# Altium integrated library Maxim Sensors.IntLib: 1171 symbols (part 32 of 61)
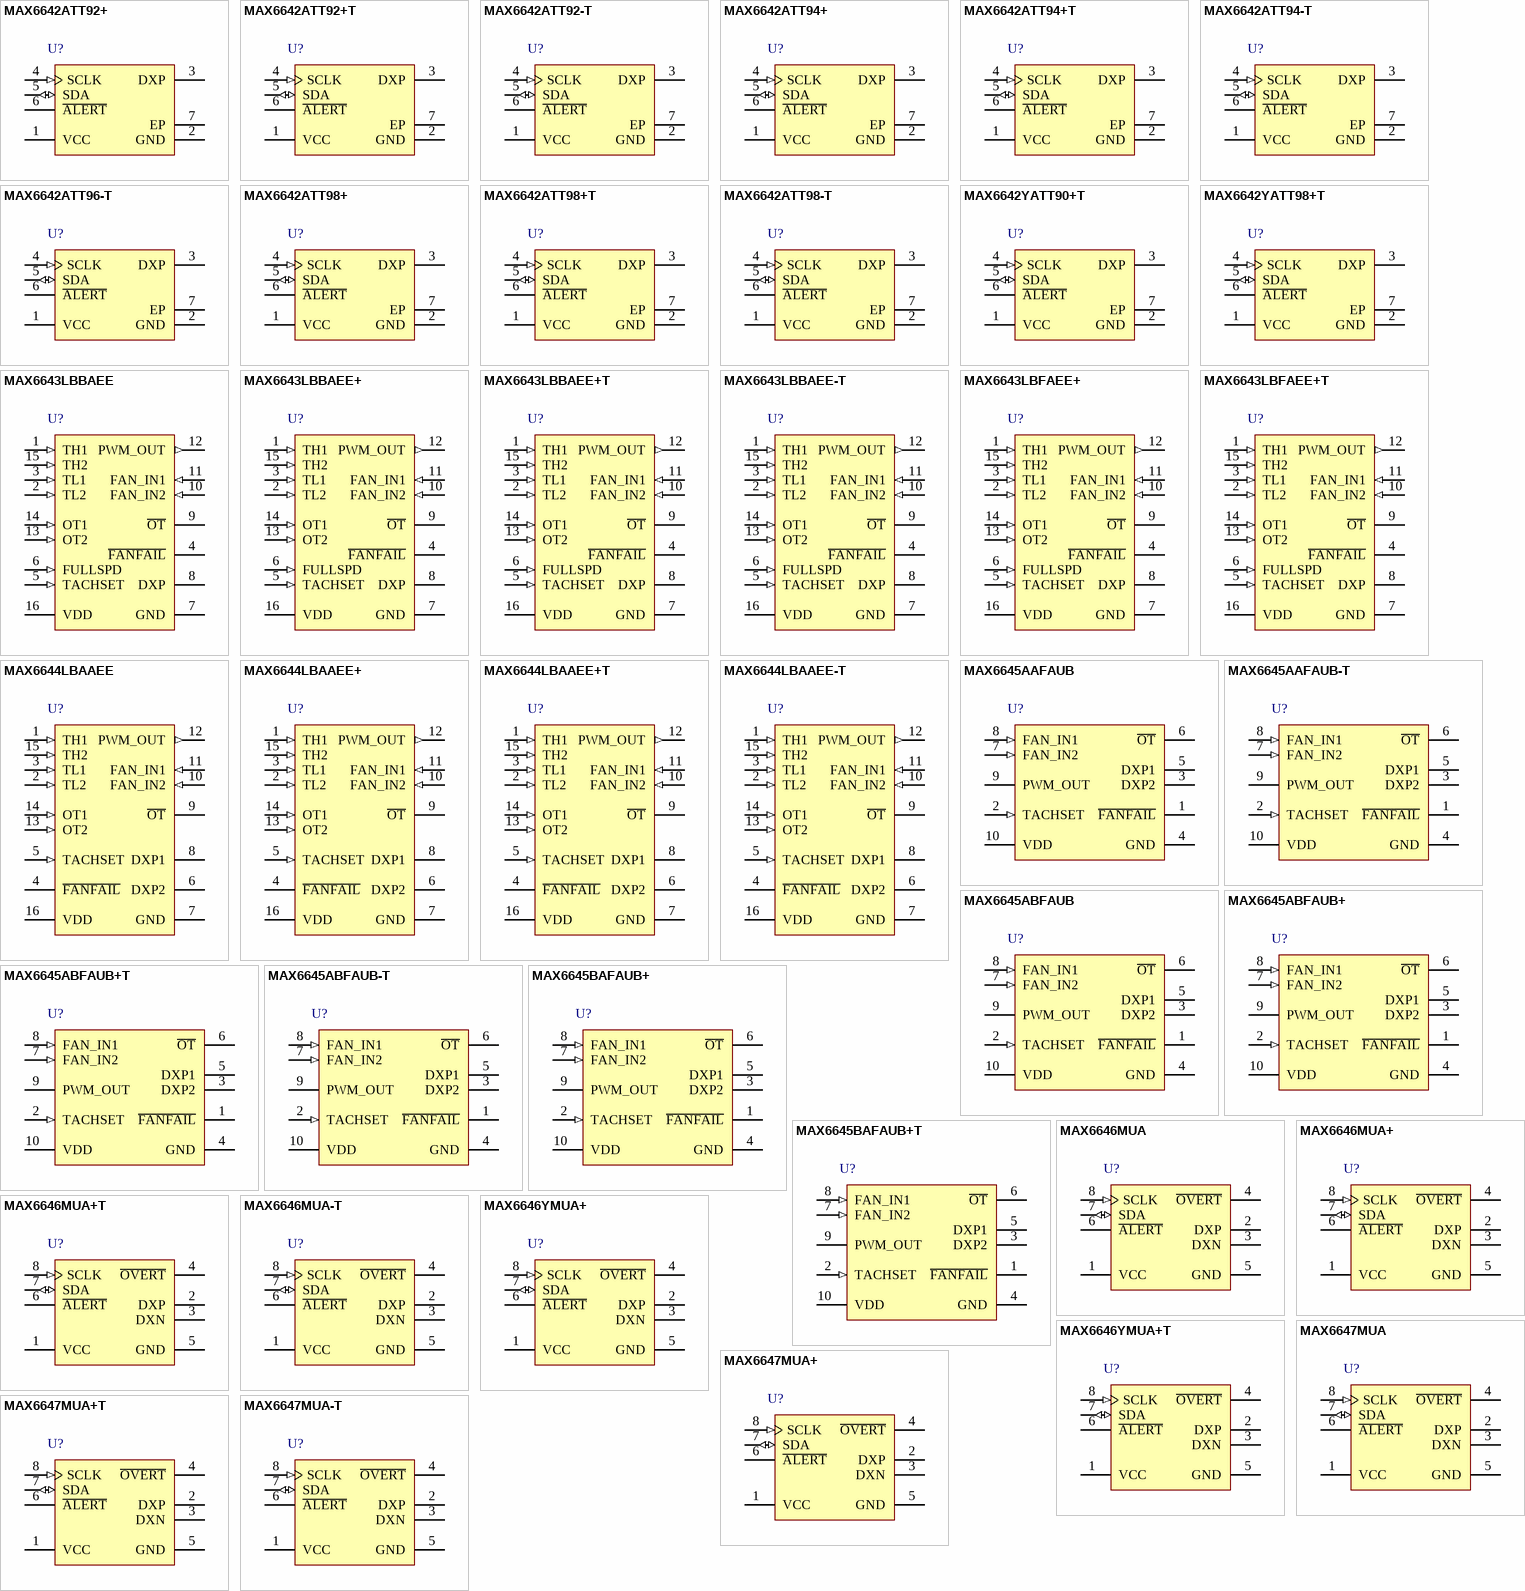
[diagram p64: symbols MAX6642ATT92+ to MAX6647MUA-T]

## MAX6644LBAAEE
designator U?
Automatic PWM Fan-Speed Controllers with Overtemperature Output, -40 to 125 degC, 16-Pin SOP (E16-1); Generic Part Number: MAX6644; PartNumber: MAX6644LBAAEE; Fan Controller Functions: Remote & Local Sensor; DatasheetVersion: Rev. 2; PackageVersion: Rev. K, 04/2012; PackageReference: E16-1; PackageDescription: 16-Pin Quarter Small-Outline Package (E16-1), Body 4.90 x 3.89 mm, Pitch 0.635 mm; Supplier 1: Mouser; Supplier Part Number 1: N/A; Fan Cntrl.: PWM; Mounting Technology: Surface Mount; Code_JEDEC: MO137; ComponentLink1Description: Manufacturer URL; ComponentLink1URL: http://www.maximintegrated.com/; ComponentLink2Description: Datasheet; ComponentLink2URL: http://datasheets.maximintegrated.com/en/ds/MAX6643-MAX6645.pdf; ComponentLink3Description: Package Specification; ComponentLink3URL: http://pdfserv.maximintegrated.com/package_dwgs/21-0055.PDF
footprint MAXM-E16-1_N (SOP, 16-Leads, Body 4.9x3.89mm, Pitch 0.635mm, IPC Medium Density)
footprint MAXM-E16-1_L (SOP, 16-Leads, Body 4.9x3.89mm, Pitch 0.635mm, IPC High Density)
footprint MAXM-E16-1_M (SOP, 16-Leads, Body 4.9x3.89mm, Pitch 0.635mm, IPC Low Density)
pins: 1 TH1 (in) "High-Temperature Threshold Inputs. Connect to VDD, GND, or leave unconnected to select the upper fan-control trip temperature (THIGH), in 5degreesC increments. See Table 1.", 2 TL2 (in) "Low-Temperature Threshold Inputs. Connect to VDD, GND, or leave unconnected to select the lower fan-control trip temperature (TLOW), in 5degreesC increments. See Table 2.", 3 TL1 (in) "Low-Temperature Threshold Inputs. Connect to VDD, GND, or leave unconnected to select the lower fan-control trip temperature (TLOW), in 5degreesC increments. See Table 2.", 4 ~{FANFAIL} (oc) "Fan-Fail Alarm Output. F\A\N\F\A\I\L\ is an active-low, open-drain output. If the FAN_IN_ detects a fan failure, the F\A\N\F\A\I\L\ output asserts low.", 5 TACHSET (in) "FAN_IN_ Control Input. TACHSET controls what type of fan-fail condition is being detected. Connect TACHSET to VDD, GND, or leave floating to set locked rotor, current sense, or tachometer configurations (see Table 3).", 6 DXP2 "Combined Current Source and A/D Positive Input for Remote Diode. Connect to anode of remote diode-connected temperature-sensing transistor. Connect to GND if no remote diode is used. Place a 2200pF capacitor between DXP_and (See Datasheet)", 7 GND (power) "Ground", 8 DXP1 "Combined Current Source and A/D Positive Input for Remote Diode. Connect to anode of remote diode-connected temperature-sensing transistor. Connect to GND if no remote diode is used. Place a 2200pF capacitor between DXP_and (See Datasheet)", 9 ~{OT} (oc) "Active-Low, Open-Drain Overtemperature Output. When O\T\ threshold is exceeded, O\T\ pulls low.", 10 FAN_IN2 (in) "Fan- Sense Input. FAN_ IN_can be configured to monitor either a fan’ s log ic- level locked - rotor output, tachometer output, or senser esistor waveform to d etect fan fai lure. The MAX6643’ s FAN_IN_input can monitor only (See Datasheet)", 11 FAN_IN1 (in) "Fan- Sense Input. FAN_ IN_can be configured to monitor either a fan’ s log ic- level locked - rotor output, tachometer output, or senser esistor waveform to d etect fan fai lure. The MAX6643’ s FAN_IN_input can monitor only (See Datasheet)", 12 PWM_OUT (out) "PWM Output for Driving External Power Transistor. Connect to the gate of an n-channel MOSFET or to the base of an npn. PWM_OUT requires a pullup resistor. The pullup resistor can be connected to a supply voltage as high as 5.(See Datasheet)", 13 OT2 (in) "Overtemperature Threshold Inputs. Connect to VDD, GND, or leave unconnected to select the upper-limit O\T\ fault output trip temperature, in 5 degC increments. See Table 4.", 14 OT1 (in) "Overtemperature Threshold Inputs. Connect to VDD, GND, or leave unconnected to select the upper-limit O\T\ fault output trip temperature, in 5 degC increments. See Table 4.", 15 TH2 (in) "High-Temperature Threshold Inputs. Connect to VDD, GND, or leave unconnected to select the upper fan-control trip temperature (THIGH), in 5degreesC increments. See Table 1.", 16 VDD (power) "Power-Supply Input. 3.3V nominal. Bypass VDD to GND with a 0.1uF capacitor."

## MAX6644LBAAEE+
designator U?
Automatic PWM Fan-Speed Controllers with Overtemperature Output, -40 to 125 degC, 16-Pin SOP (E16+1), Pb-Free; Generic Part Number: MAX6644; PartNumber: MAX6644LBAAEE+; Fan Controller Functions: Remote & Local Sensor; DatasheetVersion: Rev. 2; PackageVersion: Rev. K, 04/2012; PackageReference: E16+1; PackageDescription: 16-Pin Quarter Small-Outline Package (E16+1), Body 4.90 x 3.89 mm, Pitch 0.635 mm; Supplier 1: Digi-Key; Supplier Part Number 1: MAX6644LBAAEE+-ND; Supplier 2: Mouser; Supplier Part Number 2: 700-MAX6644LBAAEE; Fan Cntrl.: PWM; Mounting Technology: Surface Mount; Code_JEDEC: MO137; ComponentLink1Description: Manufacturer URL; ComponentLink1URL: http://www.maximintegrated.com/; ComponentLink2Description: Datasheet; ComponentLink2URL: http://datasheets.maximintegrated.com/en/ds/MAX6643-MAX6645.pdf; ComponentLink3Description: Package Specification; ComponentLink3URL: http://pdfserv.maximintegrated.com/package_dwgs/21-0055.PDF
footprint MAXM-E16+1_N (SOP, 16-Leads, Body 4.9x3.89mm, Pitch 0.635mm, IPC Medium Density)
footprint MAXM-E16+1_L (SOP, 16-Leads, Body 4.9x3.89mm, Pitch 0.635mm, IPC High Density)
footprint MAXM-E16+1_M (SOP, 16-Leads, Body 4.9x3.89mm, Pitch 0.635mm, IPC Low Density)
pins: 1 TH1 (in) "High-Temperature Threshold Inputs. Connect to VDD, GND, or leave unconnected to select the upper fan-control trip temperature (THIGH), in 5degreesC increments. See Table 1.", 2 TL2 (in) "Low-Temperature Threshold Inputs. Connect to VDD, GND, or leave unconnected to select the lower fan-control trip temperature (TLOW), in 5degreesC increments. See Table 2.", 3 TL1 (in) "Low-Temperature Threshold Inputs. Connect to VDD, GND, or leave unconnected to select the lower fan-control trip temperature (TLOW), in 5degreesC increments. See Table 2.", 4 ~{FANFAIL} (oc) "Fan-Fail Alarm Output. F\A\N\F\A\I\L\ is an active-low, open-drain output. If the FAN_IN_ detects a fan failure, the F\A\N\F\A\I\L\ output asserts low.", 5 TACHSET (in) "FAN_IN_ Control Input. TACHSET controls what type of fan-fail condition is being detected. Connect TACHSET to VDD, GND, or leave floating to set locked rotor, current sense, or tachometer configurations (see Table 3).", 6 DXP2 "Combined Current Source and A/D Positive Input for Remote Diode. Connect to anode of remote diode-connected temperature-sensing transistor. Connect to GND if no remote diode is used. Place a 2200pF capacitor between DXP_and (See Datasheet)", 7 GND (power) "Ground", 8 DXP1 "Combined Current Source and A/D Positive Input for Remote Diode. Connect to anode of remote diode-connected temperature-sensing transistor. Connect to GND if no remote diode is used. Place a 2200pF capacitor between DXP_and (See Datasheet)", 9 ~{OT} (oc) "Active-Low, Open-Drain Overtemperature Output. When O\T\ threshold is exceeded, O\T\ pulls low.", 10 FAN_IN2 (in) "Fan- Sense Input. FAN_ IN_can be configured to monitor either a fan’ s log ic- level locked - rotor output, tachometer output, or senser esistor waveform to d etect fan fai lure. The MAX6643’ s FAN_IN_input can monitor only (See Datasheet)", 11 FAN_IN1 (in) "Fan- Sense Input. FAN_ IN_can be configured to monitor either a fan’ s log ic- level locked - rotor output, tachometer output, or senser esistor waveform to d etect fan fai lure. The MAX6643’ s FAN_IN_input can monitor only (See Datasheet)", 12 PWM_OUT (out) "PWM Output for Driving External Power Transistor. Connect to the gate of an n-channel MOSFET or to the base of an npn. PWM_OUT requires a pullup resistor. The pullup resistor can be connected to a supply voltage as high as 5.(See Datasheet)", 13 OT2 (in) "Overtemperature Threshold Inputs. Connect to VDD, GND, or leave unconnected to select the upper-limit O\T\ fault output trip temperature, in 5 degC increments. See Table 4.", 14 OT1 (in) "Overtemperature Threshold Inputs. Connect to VDD, GND, or leave unconnected to select the upper-limit O\T\ fault output trip temperature, in 5 degC increments. See Table 4.", 15 TH2 (in) "High-Temperature Threshold Inputs. Connect to VDD, GND, or leave unconnected to select the upper fan-control trip temperature (THIGH), in 5degreesC increments. See Table 1.", 16 VDD (power) "Power-Supply Input. 3.3V nominal. Bypass VDD to GND with a 0.1uF capacitor."

## MAX6644LBAAEE+T
designator U?
Automatic PWM Fan-Speed Controllers with Overtemperature Output, -40 to 125 degC, 16-Pin SOP (E16+1), Pb-Free, Tape and Reel; Generic Part Number: MAX6644; PartNumber: MAX6644LBAAEE+T; Fan Controller Functions: Remote & Local Sensor; DatasheetVersion: Rev. 2; PackageVersion: Rev. K, 04/2012; PackageReference: E16+1; PackageDescription: 16-Pin Quarter Small-Outline Package (E16+1), Body 4.90 x 3.89 mm, Pitch 0.635 mm; Supplier 1: Digi-Key; Supplier Part Number 1: MAX6644LBAAEE+T-ND; Supplier 2: Mouser; Supplier Part Number 2: 700-MAX6644LBAAEET; Fan Cntrl.: PWM; Packing: Tape and Reel; Mounting Technology: Surface Mount; Code_JEDEC: MO137; ComponentLink1Description: Manufacturer URL; ComponentLink1URL: http://www.maximintegrated.com/; ComponentLink2Description: Datasheet; ComponentLink2URL: http://datasheets.maximintegrated.com/en/ds/MAX6643-MAX6645.pdf; ComponentLink3Description: Package Specification; ComponentLink3URL: http://pdfserv.maximintegrated.com/package_dwgs/21-0055.PDF
footprint MAXM-E16+1_N (SOP, 16-Leads, Body 4.9x3.89mm, Pitch 0.635mm, IPC Medium Density)
footprint MAXM-E16+1_L (SOP, 16-Leads, Body 4.9x3.89mm, Pitch 0.635mm, IPC High Density)
footprint MAXM-E16+1_M (SOP, 16-Leads, Body 4.9x3.89mm, Pitch 0.635mm, IPC Low Density)
pins: 1 TH1 (in) "High-Temperature Threshold Inputs. Connect to VDD, GND, or leave unconnected to select the upper fan-control trip temperature (THIGH), in 5degreesC increments. See Table 1.", 2 TL2 (in) "Low-Temperature Threshold Inputs. Connect to VDD, GND, or leave unconnected to select the lower fan-control trip temperature (TLOW), in 5degreesC increments. See Table 2.", 3 TL1 (in) "Low-Temperature Threshold Inputs. Connect to VDD, GND, or leave unconnected to select the lower fan-control trip temperature (TLOW), in 5degreesC increments. See Table 2.", 4 ~{FANFAIL} (oc) "Fan-Fail Alarm Output. F\A\N\F\A\I\L\ is an active-low, open-drain output. If the FAN_IN_ detects a fan failure, the F\A\N\F\A\I\L\ output asserts low.", 5 TACHSET (in) "FAN_IN_ Control Input. TACHSET controls what type of fan-fail condition is being detected. Connect TACHSET to VDD, GND, or leave floating to set locked rotor, current sense, or tachometer configurations (see Table 3).", 6 DXP2 "Combined Current Source and A/D Positive Input for Remote Diode. Connect to anode of remote diode-connected temperature-sensing transistor. Connect to GND if no remote diode is used. Place a 2200pF capacitor between DXP_and (See Datasheet)", 7 GND (power) "Ground", 8 DXP1 "Combined Current Source and A/D Positive Input for Remote Diode. Connect to anode of remote diode-connected temperature-sensing transistor. Connect to GND if no remote diode is used. Place a 2200pF capacitor between DXP_and (See Datasheet)", 9 ~{OT} (oc) "Active-Low, Open-Drain Overtemperature Output. When O\T\ threshold is exceeded, O\T\ pulls low.", 10 FAN_IN2 (in) "Fan- Sense Input. FAN_ IN_can be configured to monitor either a fan’ s log ic- level locked - rotor output, tachometer output, or senser esistor waveform to d etect fan fai lure. The MAX6643’ s FAN_IN_input can monitor only (See Datasheet)", 11 FAN_IN1 (in) "Fan- Sense Input. FAN_ IN_can be configured to monitor either a fan’ s log ic- level locked - rotor output, tachometer output, or senser esistor waveform to d etect fan fai lure. The MAX6643’ s FAN_IN_input can monitor only (See Datasheet)", 12 PWM_OUT (out) "PWM Output for Driving External Power Transistor. Connect to the gate of an n-channel MOSFET or to the base of an npn. PWM_OUT requires a pullup resistor. The pullup resistor can be connected to a supply voltage as high as 5.(See Datasheet)", 13 OT2 (in) "Overtemperature Threshold Inputs. Connect to VDD, GND, or leave unconnected to select the upper-limit O\T\ fault output trip temperature, in 5 degC increments. See Table 4.", 14 OT1 (in) "Overtemperature Threshold Inputs. Connect to VDD, GND, or leave unconnected to select the upper-limit O\T\ fault output trip temperature, in 5 degC increments. See Table 4.", 15 TH2 (in) "High-Temperature Threshold Inputs. Connect to VDD, GND, or leave unconnected to select the upper fan-control trip temperature (THIGH), in 5degreesC increments. See Table 1.", 16 VDD (power) "Power-Supply Input. 3.3V nominal. Bypass VDD to GND with a 0.1uF capacitor."

## MAX6644LBAAEE-T
designator U?
Automatic PWM Fan-Speed Controllers with Overtemperature Output, -40 to 125 degC, 16-Pin SOP (E16-1), Tape and Reel; Generic Part Number: MAX6644; PartNumber: MAX6644LBAAEE-T; Fan Controller Functions: Remote & Local Sensor; DatasheetVersion: Rev. 2; PackageVersion: Rev. K, 04/2012; PackageReference: E16-1; PackageDescription: 16-Pin Quarter Small-Outline Package (E16-1), Body 4.90 x 3.89 mm, Pitch 0.635 mm; Supplier 1: Mouser; Supplier Part Number 1: N/A; Fan Cntrl.: PWM; Packing: Tape and Reel; Mounting Technology: Surface Mount; Code_JEDEC: MO137; ComponentLink1Description: Manufacturer URL; ComponentLink1URL: http://www.maximintegrated.com/; ComponentLink2Description: Datasheet; ComponentLink2URL: http://datasheets.maximintegrated.com/en/ds/MAX6643-MAX6645.pdf; ComponentLink3Description: Package Specification; ComponentLink3URL: http://pdfserv.maximintegrated.com/package_dwgs/21-0055.PDF
footprint MAXM-E16-1_N (SOP, 16-Leads, Body 4.9x3.89mm, Pitch 0.635mm, IPC Medium Density)
footprint MAXM-E16-1_L (SOP, 16-Leads, Body 4.9x3.89mm, Pitch 0.635mm, IPC High Density)
footprint MAXM-E16-1_M (SOP, 16-Leads, Body 4.9x3.89mm, Pitch 0.635mm, IPC Low Density)
pins: 1 TH1 (in) "High-Temperature Threshold Inputs. Connect to VDD, GND, or leave unconnected to select the upper fan-control trip temperature (THIGH), in 5degreesC increments. See Table 1.", 2 TL2 (in) "Low-Temperature Threshold Inputs. Connect to VDD, GND, or leave unconnected to select the lower fan-control trip temperature (TLOW), in 5degreesC increments. See Table 2.", 3 TL1 (in) "Low-Temperature Threshold Inputs. Connect to VDD, GND, or leave unconnected to select the lower fan-control trip temperature (TLOW), in 5degreesC increments. See Table 2.", 4 ~{FANFAIL} (oc) "Fan-Fail Alarm Output. F\A\N\F\A\I\L\ is an active-low, open-drain output. If the FAN_IN_ detects a fan failure, the F\A\N\F\A\I\L\ output asserts low.", 5 TACHSET (in) "FAN_IN_ Control Input. TACHSET controls what type of fan-fail condition is being detected. Connect TACHSET to VDD, GND, or leave floating to set locked rotor, current sense, or tachometer configurations (see Table 3).", 6 DXP2 "Combined Current Source and A/D Positive Input for Remote Diode. Connect to anode of remote diode-connected temperature-sensing transistor. Connect to GND if no remote diode is used. Place a 2200pF capacitor between DXP_and (See Datasheet)", 7 GND (power) "Ground", 8 DXP1 "Combined Current Source and A/D Positive Input for Remote Diode. Connect to anode of remote diode-connected temperature-sensing transistor. Connect to GND if no remote diode is used. Place a 2200pF capacitor between DXP_and (See Datasheet)", 9 ~{OT} (oc) "Active-Low, Open-Drain Overtemperature Output. When O\T\ threshold is exceeded, O\T\ pulls low.", 10 FAN_IN2 (in) "Fan- Sense Input. FAN_ IN_can be configured to monitor either a fan’ s log ic- level locked - rotor output, tachometer output, or senser esistor waveform to d etect fan fai lure. The MAX6643’ s FAN_IN_input can monitor only (See Datasheet)", 11 FAN_IN1 (in) "Fan- Sense Input. FAN_ IN_can be configured to monitor either a fan’ s log ic- level locked - rotor output, tachometer output, or senser esistor waveform to d etect fan fai lure. The MAX6643’ s FAN_IN_input can monitor only (See Datasheet)", 12 PWM_OUT (out) "PWM Output for Driving External Power Transistor. Connect to the gate of an n-channel MOSFET or to the base of an npn. PWM_OUT requires a pullup resistor. The pullup resistor can be connected to a supply voltage as high as 5.(See Datasheet)", 13 OT2 (in) "Overtemperature Threshold Inputs. Connect to VDD, GND, or leave unconnected to select the upper-limit O\T\ fault output trip temperature, in 5 degC increments. See Table 4.", 14 OT1 (in) "Overtemperature Threshold Inputs. Connect to VDD, GND, or leave unconnected to select the upper-limit O\T\ fault output trip temperature, in 5 degC increments. See Table 4.", 15 TH2 (in) "High-Temperature Threshold Inputs. Connect to VDD, GND, or leave unconnected to select the upper fan-control trip temperature (THIGH), in 5degreesC increments. See Table 1.", 16 VDD (power) "Power-Supply Input. 3.3V nominal. Bypass VDD to GND with a 0.1uF capacitor."

## MAX6645AAFAUB
designator U?
Automatic PWM Fan-Speed Controllers with Overtemperature Output, -40 to 125 degC, 10-Pin SOP (U10-2); Generic Part Number: MAX6645; PartNumber: MAX6645AAFAUB; Fan Controller Functions: Remote & Local Sensor; DatasheetVersion: Rev. 2; PackageVersion: Rev. L, 07/2008; PackageReference: U10-2; PackageDescription: 10-Pin Micro-MAX, Thin Shrink Small-Outline (U10-2), Body 3 x 3 mm, Pitch 0.5 mm; Supplier 1: Mouser; Supplier Part Number 1: 700-MAX6645AAFAUB; Fan Cntrl.: PWM; Mounting Technology: Surface Mount; Code_JEDEC: MO-187; ComponentLink1Description: Manufacturer URL; ComponentLink1URL: http://www.maximintegrated.com/; ComponentLink2Description: Datasheet; ComponentLink2URL: http://datasheets.maximintegrated.com/en/ds/MAX6643-MAX6645.pdf; ComponentLink3Description: Package Specification; ComponentLink3URL: http://pdfserv.maximintegrated.com/package_dwgs/21-0061.PDF
footprint MAXM-U10-2_N (SOP, 10-Leads, Body 3x3mm, Pitch 0.5mm, IPC Medium Density)
footprint MAXM-U10-2_L (SOP, 10-Leads, Body 3x3mm, Pitch 0.5mm, IPC High Density)
footprint MAXM-U10-2_M (SOP, 10-Leads, Body 3x3mm, Pitch 0.5mm, IPC Low Density)
pins: 1 ~{FANFAIL} (oc) "Fan-Fail Alarm Output. F\A\N\F\A\I\L\ is an active-low, open-drain output. If the FAN_IN_ detects a fan failure, the F\A\N\F\A\I\L\ output asserts low.", 2 TACHSET (in) "FAN_IN_ Control Input. TACHSET controls what type of fan-fail condition is being detected. Connect TACHSET to VDD, GND, or leave floating to set locked rotor, current sense, or tachometer configurations (see Table 3).", 3 DXP2 "Combined Current Source and A/D  Positive Input for Remote Diode. Connect to anode of remote diode-connected temperature-sensing transistor. Connect to GND if no remote diode is used. Place a 2200pF capacitor between DXP and (See Datasheet)", 4 GND (power) "Ground", 5 DXP1 "Combined Current Source and A/D  Positive Input for Remote Diode. Connect to anode of remote diode-connected temperature-sensing transistor. Connect to GND if no remote diode is used. Place a 2200pF capacitor between DXP and (See Datasheet)", 6 ~{OT} (oc) "Active-Low, Open-Drain Overtemperature Output. When O\T\ threshold is exceeded, O\T\ pulls low.", 7 FAN_IN2 (in) "Fan-Sense Input. FAN_IN_ can be configured to monitor either a fan’s logic-level locked-rotor output, tachometer output, or sense-resistor waveform to detect fan failure. The MAX 6643’s FAN_IN_ input can monitor only (See Datasheet)", 8 FAN_IN1 (in) "Fan-Sense Input. FAN_IN_ can be configured to monitor either a fan’s logic-level locked-rotor output, tachometer output, or sense-resistor waveform to detect fan failure. The MAX 6643’s FAN_IN_ input can monitor only (See Datasheet)", 9 PWM_OUT (oc) "PWM Output for Driving External Power Transistor. Connect to the gate of an n-channel MOSFET or to the base of an npn. PWM_OUT requires a pullup resistor. The pullup resistor can be connected to a supply voltage as high as 5.(See Datasheet)", 10 VDD (power) "Power-Supply Input. 3.3V nominal. Bypass VDD to GND with a 0.1uF capacitor."

## MAX6645AAFAUB-T
designator U?
Automatic PWM Fan-Speed Controllers with Overtemperature Output, -40 to 125 degC, 10-Pin SOP (U10-2), Tape and Reel; Generic Part Number: MAX6645; PartNumber: MAX6645AAFAUB-T; Fan Controller Functions: Remote & Local Sensor; DatasheetVersion: Rev. 2; PackageVersion: Rev. L, 07/2008; PackageReference: U10-2; PackageDescription: 10-Pin Micro-MAX, Thin Shrink Small-Outline (U10-2), Body 3 x 3 mm, Pitch 0.5 mm; Supplier 1: Mouser; Supplier Part Number 1: 700-MAX6645AAFAUB-T; Fan Cntrl.: PWM; Packing: Tape and Reel; Mounting Technology: Surface Mount; Code_JEDEC: MO-187; ComponentLink1Description: Manufacturer URL; ComponentLink1URL: http://www.maximintegrated.com/; ComponentLink2Description: Datasheet; ComponentLink2URL: http://datasheets.maximintegrated.com/en/ds/MAX6643-MAX6645.pdf; ComponentLink3Description: Package Specification; ComponentLink3URL: http://pdfserv.maximintegrated.com/package_dwgs/21-0061.PDF
footprint MAXM-U10-2_N (SOP, 10-Leads, Body 3x3mm, Pitch 0.5mm, IPC Medium Density)
footprint MAXM-U10-2_L (SOP, 10-Leads, Body 3x3mm, Pitch 0.5mm, IPC High Density)
footprint MAXM-U10-2_M (SOP, 10-Leads, Body 3x3mm, Pitch 0.5mm, IPC Low Density)
pins: 1 ~{FANFAIL} (oc) "Fan-Fail Alarm Output. F\A\N\F\A\I\L\ is an active-low, open-drain output. If the FAN_IN_ detects a fan failure, the F\A\N\F\A\I\L\ output asserts low.", 2 TACHSET (in) "FAN_IN_ Control Input. TACHSET controls what type of fan-fail condition is being detected. Connect TACHSET to VDD, GND, or leave floating to set locked rotor, current sense, or tachometer configurations (see Table 3).", 3 DXP2 "Combined Current Source and A/D  Positive Input for Remote Diode. Connect to anode of remote diode-connected temperature-sensing transistor. Connect to GND if no remote diode is used. Place a 2200pF capacitor between DXP and (See Datasheet)", 4 GND (power) "Ground", 5 DXP1 "Combined Current Source and A/D  Positive Input for Remote Diode. Connect to anode of remote diode-connected temperature-sensing transistor. Connect to GND if no remote diode is used. Place a 2200pF capacitor between DXP and (See Datasheet)", 6 ~{OT} (oc) "Active-Low, Open-Drain Overtemperature Output. When O\T\ threshold is exceeded, O\T\ pulls low.", 7 FAN_IN2 (in) "Fan-Sense Input. FAN_IN_ can be configured to monitor either a fan’s logic-level locked-rotor output, tachometer output, or sense-resistor waveform to detect fan failure. The MAX 6643’s FAN_IN_ input can monitor only (See Datasheet)", 8 FAN_IN1 (in) "Fan-Sense Input. FAN_IN_ can be configured to monitor either a fan’s logic-level locked-rotor output, tachometer output, or sense-resistor waveform to detect fan failure. The MAX 6643’s FAN_IN_ input can monitor only (See Datasheet)", 9 PWM_OUT (oc) "PWM Output for Driving External Power Transistor. Connect to the gate of an n-channel MOSFET or to the base of an npn. PWM_OUT requires a pullup resistor. The pullup resistor can be connected to a supply voltage as high as 5.(See Datasheet)", 10 VDD (power) "Power-Supply Input. 3.3V nominal. Bypass VDD to GND with a 0.1uF capacitor."

## MAX6645ABFAUB
designator U?
Automatic PWM Fan-Speed Controllers with Overtemperature Output, -40 to 125 degC, 10-Pin SOP (U10-2); Generic Part Number: MAX6645; PartNumber: MAX6645ABFAUB; Fan Controller Functions: Remote & Local Sensor; DatasheetVersion: Rev. 2; PackageVersion: Rev. L, 07/2008; PackageReference: U10-2; PackageDescription: 10-Pin Micro-MAX, Thin Shrink Small-Outline (U10-2), Body 3 x 3 mm, Pitch 0.5 mm; Supplier 1: Mouser; Supplier Part Number 1: 700-MAX6645ABFAUB-NR; Fan Cntrl.: PWM; Mounting Technology: Surface Mount; Code_JEDEC: MO-187; ComponentLink1Description: Manufacturer URL; ComponentLink1URL: http://www.maximintegrated.com/; ComponentLink2Description: Datasheet; ComponentLink2URL: http://datasheets.maximintegrated.com/en/ds/MAX6643-MAX6645.pdf; ComponentLink3Description: Package Specification; ComponentLink3URL: http://pdfserv.maximintegrated.com/package_dwgs/21-0061.PDF
footprint MAXM-U10-2_N (SOP, 10-Leads, Body 3x3mm, Pitch 0.5mm, IPC Medium Density)
footprint MAXM-U10-2_L (SOP, 10-Leads, Body 3x3mm, Pitch 0.5mm, IPC High Density)
footprint MAXM-U10-2_M (SOP, 10-Leads, Body 3x3mm, Pitch 0.5mm, IPC Low Density)
pins: 1 ~{FANFAIL} (oc) "Fan-Fail Alarm Output. F\A\N\F\A\I\L\ is an active-low, open-drain output. If the FAN_IN_ detects a fan failure, the F\A\N\F\A\I\L\ output asserts low.", 2 TACHSET (in) "FAN_IN_ Control Input. TACHSET controls what type of fan-fail condition is being detected. Connect TACHSET to VDD, GND, or leave floating to set locked rotor, current sense, or tachometer configurations (see Table 3).", 3 DXP2 "Combined Current Source and A/D  Positive Input for Remote Diode. Connect to anode of remote diode-connected temperature-sensing transistor. Connect to GND if no remote diode is used. Place a 2200pF capacitor between DXP and (See Datasheet)", 4 GND (power) "Ground", 5 DXP1 "Combined Current Source and A/D  Positive Input for Remote Diode. Connect to anode of remote diode-connected temperature-sensing transistor. Connect to GND if no remote diode is used. Place a 2200pF capacitor between DXP and (See Datasheet)", 6 ~{OT} (oc) "Active-Low, Open-Drain Overtemperature Output. When O\T\ threshold is exceeded, O\T\ pulls low.", 7 FAN_IN2 (in) "Fan-Sense Input. FAN_IN_ can be configured to monitor either a fan’s logic-level locked-rotor output, tachometer output, or sense-resistor waveform to detect fan failure. The MAX 6643’s FAN_IN_ input can monitor only (See Datasheet)", 8 FAN_IN1 (in) "Fan-Sense Input. FAN_IN_ can be configured to monitor either a fan’s logic-level locked-rotor output, tachometer output, or sense-resistor waveform to detect fan failure. The MAX 6643’s FAN_IN_ input can monitor only (See Datasheet)", 9 PWM_OUT (oc) "PWM Output for Driving External Power Transistor. Connect to the gate of an n-channel MOSFET or to the base of an npn. PWM_OUT requires a pullup resistor. The pullup resistor can be connected to a supply voltage as high as 5.(See Datasheet)", 10 VDD (power) "Power-Supply Input. 3.3V nominal. Bypass VDD to GND with a 0.1uF capacitor."

## MAX6645ABFAUB+
designator U?
Automatic PWM Fan-Speed Controllers with Overtemperature Output, -40 to 125 degC, 10-Pin SOP (U10+2), Pb-Free; Generic Part Number: MAX6645; PartNumber: MAX6645ABFAUB+; Fan Controller Functions: Remote & Local Sensor; DatasheetVersion: Rev. 2; PackageVersion: Rev. L, 07/2008; PackageReference: U10+2; PackageDescription: 10-Pin Micro-MAX, Thin Shrink Small-Outline (U10+2), Body 3 x 3 mm, Pitch 0.5 mm; Supplier 1: Digi-Key; Supplier Part Number 1: MAX6645ABFAUB+-ND; Supplier 2: Mouser; Supplier Part Number 2: 700-MAX6645ABFAUB; Fan Cntrl.: PWM; Mounting Technology: Surface Mount; Code_JEDEC: MO-187; ComponentLink1Description: Manufacturer URL; ComponentLink1URL: http://www.maximintegrated.com/; ComponentLink2Description: Datasheet; ComponentLink2URL: http://datasheets.maximintegrated.com/en/ds/MAX6643-MAX6645.pdf; ComponentLink3Description: Package Specification; ComponentLink3URL: http://pdfserv.maximintegrated.com/package_dwgs/21-0061.PDF
footprint MAXM-U10+2_N (SOP, 10-Leads, Body 3x3mm, Pitch 0.5mm, IPC Medium Density)
footprint MAXM-U10+2_L (SOP, 10-Leads, Body 3x3mm, Pitch 0.5mm, IPC High Density)
footprint MAXM-U10+2_M (SOP, 10-Leads, Body 3x3mm, Pitch 0.5mm, IPC Low Density)
pins: 1 ~{FANFAIL} (oc) "Fan-Fail Alarm Output. F\A\N\F\A\I\L\ is an active-low, open-drain output. If the FAN_IN_ detects a fan failure, the F\A\N\F\A\I\L\ output asserts low.", 2 TACHSET (in) "FAN_IN_Control Input. TACHSET controls what type of fan-fail condition is being detected. Connect TACHSET to VDD, GND, or leave floating to set locked rotor, current sense, or tachometer configurations (see Table 3).", 3 DXP2 "Combined Current Source and A/D Positive Input for Remote Diode. Connect to anode of remote diode-connected temperature-sensing transistor. Connect to GND if no remote diode is used. Place a 2200pF capacitor between DXP and (See Datasheet)", 4 GND (power) "Ground", 5 DXP1 "Combined Current Source and A/D Positive Input for Remote Diode. Connect to anode of remote diode-connected temperature-sensing transistor. Connect to GND if no remote diode is used. Place a 2200pF capacitor between DXP and (See Datasheet)", 6 ~{OT} (oc) "Active-Low, Open-Drain Overtemperature Output. When O\T\ threshold is exceeded, O\T\ pulls low.", 7 FAN_IN2 (in) "Fan-Sense Input. FAN_IN_can be configured to monitor either a fan’s logic-level locked-rotor output, tachometer output, or senser-resistor waveform to detect fan failure. The MAX 6643’s FAN_IN_input can monitor only (See Datasheet)", 8 FAN_IN1 (in) "Fan-Sense Input. FAN_IN_can be configured to monitor either a fan’s logic-level locked-rotor output, tachometer output, or senser-resistor waveform to detect fan failure. The MAX 6643’s FAN_IN_input can monitor only (See Datasheet)", 9 PWM_OUT (oc) "PWM Output for Driving External Power Transistor. Connect to the gate of an n-channel MOSFET or to the base of an npn. PWM_OUT requires a pullup resistor. The pullup resistor can be connected to a supply voltage as high as 5.(See Datasheet)", 10 VDD (power) "Power-Supply Input. 3.3V nominal. Bypass VDD to GND with a 0.1uF capacitor."

## MAX6645ABFAUB+T
designator U?
Automatic PWM Fan-Speed Controllers with Overtemperature Output, -40 to 125 degC, 10-Pin SOP (U10+2), Pb-Free, Tape and Reel; Generic Part Number: MAX6645; PartNumber: MAX6645ABFAUB+T; Fan Controller Functions: Remote & Local Sensor; DatasheetVersion: Rev. 2; PackageVersion: Rev. L, 07/2008; PackageReference: U10+2; PackageDescription: 10-Pin Micro-MAX, Thin Shrink Small-Outline (U10+2), Body 3 x 3 mm, Pitch 0.5 mm; Supplier 1: Digi-Key; Supplier Part Number 1: MAX6645ABFAUB+T-ND; Supplier 2: Mouser; Supplier Part Number 2: 700-MAX6645ABFAUBT; Fan Cntrl.: PWM; Packing: Tape and Reel; Mounting Technology: Surface Mount; Code_JEDEC: MO-187; ComponentLink1Description: Manufacturer URL; ComponentLink1URL: http://www.maximintegrated.com/; ComponentLink2Description: Datasheet; ComponentLink2URL: http://datasheets.maximintegrated.com/en/ds/MAX6643-MAX6645.pdf; ComponentLink3Description: Package Specification; ComponentLink3URL: http://pdfserv.maximintegrated.com/package_dwgs/21-0061.PDF
footprint MAXM-U10+2_N (SOP, 10-Leads, Body 3x3mm, Pitch 0.5mm, IPC Medium Density)
footprint MAXM-U10+2_L (SOP, 10-Leads, Body 3x3mm, Pitch 0.5mm, IPC High Density)
footprint MAXM-U10+2_M (SOP, 10-Leads, Body 3x3mm, Pitch 0.5mm, IPC Low Density)
pins: 1 ~{FANFAIL} (oc) "Fan-Fail Alarm Output. F\A\N\F\A\I\L\ is an active-low, open-drain output. If the FAN_IN_ detects a fan failure, the F\A\N\F\A\I\L\ output asserts low.", 2 TACHSET (in) "FAN_IN_Control Input. TACHSET controls what type of fan-fail condition is being detected. Connect TACHSET to VDD, GND, or leave floating to set locked rotor, current sense, or tachometer configurations (see Table 3).", 3 DXP2 "Combined Current Source and A/D Positive Input for Remote Diode. Connect to anode of remote diode-connected temperature-sensing transistor. Connect to GND if no remote diode is used. Place a 2200pF capacitor between DXP and (See Datasheet)", 4 GND (power) "Ground", 5 DXP1 "Combined Current Source and A/D Positive Input for Remote Diode. Connect to anode of remote diode-connected temperature-sensing transistor. Connect to GND if no remote diode is used. Place a 2200pF capacitor between DXP and (See Datasheet)", 6 ~{OT} (oc) "Active-Low, Open-Drain Overtemperature Output. When O\T\ threshold is exceeded, O\T\ pulls low.", 7 FAN_IN2 (in) "Fan-Sense Input. FAN_IN_can be configured to monitor either a fan’s logic-level locked-rotor output, tachometer output, or senser-resistor waveform to detect fan failure. The MAX 6643’s FAN_IN_input can monitor only (See Datasheet)", 8 FAN_IN1 (in) "Fan-Sense Input. FAN_IN_can be configured to monitor either a fan’s logic-level locked-rotor output, tachometer output, or senser-resistor waveform to detect fan failure. The MAX 6643’s FAN_IN_input can monitor only (See Datasheet)", 9 PWM_OUT (oc) "PWM Output for Driving External Power Transistor. Connect to the gate of an n-channel MOSFET or to the base of an npn. PWM_OUT requires a pullup resistor. The pullup resistor can be connected to a supply voltage as high as 5.(See Datasheet)", 10 VDD (power) "Power-Supply Input. 3.3V nominal. Bypass VDD to GND with a 0.1uF capacitor."

## MAX6645ABFAUB-T
designator U?
Automatic PWM Fan-Speed Controllers with Overtemperature Output, -40 to 125 degC, 10-Pin SOP (U10-2), Tape and Reel; Generic Part Number: MAX6645; PartNumber: MAX6645ABFAUB-T; Fan Controller Functions: Remote & Local Sensor; DatasheetVersion: Rev. 2; PackageVersion: Rev. L, 07/2008; PackageReference: U10-2; PackageDescription: 10-Pin Micro-MAX, Thin Shrink Small-Outline (U10-2), Body 3 x 3 mm, Pitch 0.5 mm; Supplier 1: Mouser; Supplier Part Number 1: 700-MAX6645ABFAUBPBT; Fan Cntrl.: PWM; Packing: Tape and Reel; Mounting Technology: Surface Mount; Code_JEDEC: MO-187; ComponentLink1Description: Manufacturer URL; ComponentLink1URL: http://www.maximintegrated.com/; ComponentLink2Description: Datasheet; ComponentLink2URL: http://datasheets.maximintegrated.com/en/ds/MAX6643-MAX6645.pdf; ComponentLink3Description: Package Specification; ComponentLink3URL: http://pdfserv.maximintegrated.com/package_dwgs/21-0061.PDF
footprint MAXM-U10-2_N (SOP, 10-Leads, Body 3x3mm, Pitch 0.5mm, IPC Medium Density)
footprint MAXM-U10-2_L (SOP, 10-Leads, Body 3x3mm, Pitch 0.5mm, IPC High Density)
footprint MAXM-U10-2_M (SOP, 10-Leads, Body 3x3mm, Pitch 0.5mm, IPC Low Density)
pins: 1 ~{FANFAIL} (oc) "Fan-Fail Alarm Output. F\A\N\F\A\I\L\ is an active-low, open-drain output. If the FAN_IN_ detects a fan failure, the F\A\N\F\A\I\L\ output asserts low.", 2 TACHSET (in) "FAN_IN_ Control Input. TACHSET controls what type of fan-fail condition is being detected. Connect TACHSET to VDD, GND, or leave floating to set locked rotor, current sense, or tachometer configurations (see Table 3).", 3 DXP2 "Combined Current Source and A/D  Positive Input for Remote Diode. Connect to anode of remote diode-connected temperature-sensing transistor. Connect to GND if no remote diode is used. Place a 2200pF capacitor between DXP and (See Datasheet)", 4 GND (power) "Ground", 5 DXP1 "Combined Current Source and A/D  Positive Input for Remote Diode. Connect to anode of remote diode-connected temperature-sensing transistor. Connect to GND if no remote diode is used. Place a 2200pF capacitor between DXP and (See Datasheet)", 6 ~{OT} (oc) "Active-Low, Open-Drain Overtemperature Output. When O\T\ threshold is exceeded, O\T\ pulls low.", 7 FAN_IN2 (in) "Fan-Sense Input. FAN_IN_ can be configured to monitor either a fan’s logic-level locked-rotor output, tachometer output, or sense-resistor waveform to detect fan failure. The MAX 6643’s FAN_IN_ input can monitor only (See Datasheet)", 8 FAN_IN1 (in) "Fan-Sense Input. FAN_IN_ can be configured to monitor either a fan’s logic-level locked-rotor output, tachometer output, or sense-resistor waveform to detect fan failure. The MAX 6643’s FAN_IN_ input can monitor only (See Datasheet)", 9 PWM_OUT (oc) "PWM Output for Driving External Power Transistor. Connect to the gate of an n-channel MOSFET or to the base of an npn. PWM_OUT requires a pullup resistor. The pullup resistor can be connected to a supply voltage as high as 5.(See Datasheet)", 10 VDD (power) "Power-Supply Input. 3.3V nominal. Bypass VDD to GND with a 0.1uF capacitor."

## MAX6645BAFAUB+
designator U?
Automatic PWM Fan-Speed Controllers with Overtemperature Output, -40 to 125 degC, 10-Pin SOP (U10+2), Pb-Free; Generic Part Number: MAX6645; PartNumber: MAX6645BAFAUB+; Fan Controller Functions: Remote & Local Sensor; DatasheetVersion: Rev. 2; PackageVersion: Rev. L, 07/2008; PackageReference: U10+2; PackageDescription: 10-Pin Micro-MAX, Thin Shrink Small-Outline (U10+2), Body 3 x 3 mm, Pitch 0.5 mm; Supplier 1: Digi-Key; Supplier Part Number 1: MAX6645BAFAUB+-ND; Supplier 2: Mouser; Supplier Part Number 2: 700-MAX6645BAFAUB; Fan Cntrl.: PWM; Mounting Technology: Surface Mount; Code_JEDEC: MO-187; ComponentLink1Description: Manufacturer URL; ComponentLink1URL: http://www.maximintegrated.com/; ComponentLink2Description: Datasheet; ComponentLink2URL: http://datasheets.maximintegrated.com/en/ds/MAX6643-MAX6645.pdf; ComponentLink3Description: Package Specification; ComponentLink3URL: http://pdfserv.maximintegrated.com/package_dwgs/21-0061.PDF
footprint MAXM-U10+2_N (SOP, 10-Leads, Body 3x3mm, Pitch 0.5mm, IPC Medium Density)
footprint MAXM-U10+2_L (SOP, 10-Leads, Body 3x3mm, Pitch 0.5mm, IPC High Density)
footprint MAXM-U10+2_M (SOP, 10-Leads, Body 3x3mm, Pitch 0.5mm, IPC Low Density)
pins: 1 ~{FANFAIL} (oc) "Fan-Fail Alarm Output. F\A\N\F\A\I\L\ is an active-low, open-drain output. If the FAN_IN_ detects a fan failure, the F\A\N\F\A\I\L\ output asserts low.", 2 TACHSET (in) "FAN_IN_Control Input. TACHSET controls what type of fan-fail condition is being detected. Connect TACHSET to VDD, GND, or leave floating to set locked rotor, current sense, or tachometer configurations (see Table 3).", 3 DXP2 "Combined Current Source and A/D Positive Input for Remote Diode. Connect to anode of remote diode-connected temperature-sensing transistor. Connect to GND if no remote diode is used. Place a 2200pF capacitor between DXP and (See Datasheet)", 4 GND (power) "Ground", 5 DXP1 "Combined Current Source and A/D Positive Input for Remote Diode. Connect to anode of remote diode-connected temperature-sensing transistor. Connect to GND if no remote diode is used. Place a 2200pF capacitor between DXP and (See Datasheet)", 6 ~{OT} (oc) "Active-Low, Open-Drain Overtemperature Output. When O\T\ threshold is exceeded, O\T\ pulls low.", 7 FAN_IN2 (in) "Fan-Sense Input. FAN_IN_can be configured to monitor either a fan’s logic-level locked-rotor output, tachometer output, or senser-resistor waveform to detect fan failure. The MAX 6643’s FAN_IN_input can monitor only (See Datasheet)", 8 FAN_IN1 (in) "Fan-Sense Input. FAN_IN_can be configured to monitor either a fan’s logic-level locked-rotor output, tachometer output, or senser-resistor waveform to detect fan failure. The MAX 6643’s FAN_IN_input can monitor only (See Datasheet)", 9 PWM_OUT (oc) "PWM Output for Driving External Power Transistor. Connect to the gate of an n-channel MOSFET or to the base of an npn. PWM_OUT requires a pullup resistor. The pullup resistor can be connected to a supply voltage as high as 5.(See Datasheet)", 10 VDD (power) "Power-Supply Input. 3.3V nominal. Bypass VDD to GND with a 0.1uF capacitor."

## MAX6645BAFAUB+T
designator U?
Automatic PWM Fan-Speed Controllers with Overtemperature Output, -40 to 125 degC, 10-Pin SOP (U10+2), Pb-Free, Tape and Reel; Generic Part Number: MAX6645; PartNumber: MAX6645BAFAUB+T; Fan Controller Functions: Remote & Local Sensor; DatasheetVersion: Rev. 2; PackageVersion: Rev. L, 07/2008; PackageReference: U10+2; PackageDescription: 10-Pin Micro-MAX, Thin Shrink Small-Outline (U10+2), Body 3 x 3 mm, Pitch 0.5 mm; Supplier 1: Digi-Key; Supplier Part Number 1: MAX6645BAFAUB+T-ND; Supplier 2: Mouser; Supplier Part Number 2: 700-MAX6645BAFAUBT; Fan Cntrl.: PWM; Packing: Tape and Reel; Mounting Technology: Surface Mount; Code_JEDEC: MO-187; ComponentLink1Description: Manufacturer URL; ComponentLink1URL: http://www.maximintegrated.com/; ComponentLink2Description: Datasheet; ComponentLink2URL: http://datasheets.maximintegrated.com/en/ds/MAX6643-MAX6645.pdf; ComponentLink3Description: Package Specification; ComponentLink3URL: http://pdfserv.maximintegrated.com/package_dwgs/21-0061.PDF
footprint MAXM-U10+2_N (SOP, 10-Leads, Body 3x3mm, Pitch 0.5mm, IPC Medium Density)
footprint MAXM-U10+2_L (SOP, 10-Leads, Body 3x3mm, Pitch 0.5mm, IPC High Density)
footprint MAXM-U10+2_M (SOP, 10-Leads, Body 3x3mm, Pitch 0.5mm, IPC Low Density)
pins: 1 ~{FANFAIL} (oc) "Fan-Fail Alarm Output. F\A\N\F\A\I\L\ is an active-low, open-drain output. If the FAN_IN_ detects a fan failure, the F\A\N\F\A\I\L\ output asserts low.", 2 TACHSET (in) "FAN_IN_Control Input. TACHSET controls what type of fan-fail condition is being detected. Connect TACHSET to VDD, GND, or leave floating to set locked rotor, current sense, or tachometer configurations (see Table 3).", 3 DXP2 "Combined Current Source and A/D Positive Input for Remote Diode. Connect to anode of remote diode-connected temperature-sensing transistor. Connect to GND if no remote diode is used. Place a 2200pF capacitor between DXP and (See Datasheet)", 4 GND (power) "Ground", 5 DXP1 "Combined Current Source and A/D Positive Input for Remote Diode. Connect to anode of remote diode-connected temperature-sensing transistor. Connect to GND if no remote diode is used. Place a 2200pF capacitor between DXP and (See Datasheet)", 6 ~{OT} (oc) "Active-Low, Open-Drain Overtemperature Output. When O\T\ threshold is exceeded, O\T\ pulls low.", 7 FAN_IN2 (in) "Fan-Sense Input. FAN_IN_can be configured to monitor either a fan’s logic-level locked-rotor output, tachometer output, or senser-resistor waveform to detect fan failure. The MAX 6643’s FAN_IN_input can monitor only (See Datasheet)", 8 FAN_IN1 (in) "Fan-Sense Input. FAN_IN_can be configured to monitor either a fan’s logic-level locked-rotor output, tachometer output, or senser-resistor waveform to detect fan failure. The MAX 6643’s FAN_IN_input can monitor only (See Datasheet)", 9 PWM_OUT (oc) "PWM Output for Driving External Power Transistor. Connect to the gate of an n-channel MOSFET or to the base of an npn. PWM_OUT requires a pullup resistor. The pullup resistor can be connected to a supply voltage as high as 5.(See Datasheet)", 10 VDD (power) "Power-Supply Input. 3.3V nominal. Bypass VDD to GND with a 0.1uF capacitor."

## MAX6646MUA
designator U?
145 degC, SMBus-Compatible Remote / Local Temperature Sensor with Overtemperature Alarms, 11 Bits Temperature Resolution, -55 to +125 degC, 8-Pin SOP (U8-1); Generic Part Number: MAX6646; PartNumber: MAX6646MUA; Alarm Output: Alert, Overt; Functions: Dual Temperature Alarms, Remote & Local Sensor; Interface: 2-Wire/I2C/SMBus; Parasite Pwr.: No; DatasheetVersion: Rev. 4; PackageVersion: Rev. L, 08/2009; PackageReference: U8-1; PackageDescription: 8-Pin Micro-MAX, Thin Shrink Small-Outline (U8-1), Body 3 x 3 mm, Pitch 0.65mm; Supplier 1: Mouser; Supplier Part Number 1: N/A; Mounting Technology: Surface Mount; Code_JEDEC: MO-187; ComponentLink1Description: Manufacturer URL; ComponentLink1URL: http://www.maximintegrated.com/; ComponentLink2Description: Datasheet; ComponentLink2URL: http://datasheets.maximintegrated.com/en/ds/MAX6646-MAX6649.pdf; ComponentLink3Description: Package Specification; ComponentLink3URL: http://pdfserv.maximintegrated.com/package_dwgs/21-0036.PDF
footprint MAXM-U8-1_N (SOP, 8-Leads, Body 3x3mm, Pitch 0.65mm, IPC Medium Density)
footprint MAXM-U8-1_L (SOP, 8-Leads, Body 3x3mm, Pitch 0.65mm, IPC High Density)
footprint MAXM-U8-1_M (SOP, 8-Leads, Body 3x3mm, Pitch 0.65mm, IPC Low Density)
pins: 1 VCC (power) "Supply Voltage Input, 3V to 5.5V. Bypass VCC to GND with a 0.1uF capacitor. A 200ohm series resistor is recommended but not required for additional noise filtering", 2 DXP "Combined Remote-Diode Current Source and A/D Positive Input for Remote-Diode Channel. DO NOT LEAVE DXP UNCONNECTED; connect DXP to DXN if no remote diode is used. Place a 2200pF capacitor between DXP and DXN for noise (See Datasheet)", 3 DXN "Combined Remote-Diode Current Sink and A/D Negative Input. DXN is internally connected to ground.", 4 ~{OVERT} (oc) "Overtemperature Alert/Interrupt Output, Open Drain. O\V\E\R\T\ is logic low when the temperature is above the software-programmed threshold", 5 GND (power) "Ground", 6 ~{ALERT} (oc) "SMBus Alert (Interrupt) Output, Open Drain. A\L\E\R\T\ asserts when temperature exceeds limits (high or low temperature). A\L\E\R\T\ stays asserted until acknowledged by either reading the status register or by successfully (See Datasheet)", 7 SDA (io) "SMBus Serial-Data Input/Output, Open Drain", 8 SCLK (in) "SMBus Serial-Clock Input"

## MAX6646MUA+
designator U?
145 degC Precision, SMBus-Compatible Remote / Local Temperature Sensor with Overtemperature Alarm, 11 Bits Temperature Resolution, -55 to 125 degC, 8-Pin SOP (U8+1), Pb-Free; Generic Part Number: MAX6646; PartNumber: MAX6646MUA+; Alarm Output: Alert, Overt; Functions: Dual Temperature Alarms, Remote & Local Sensor; Interface: 2-Wire/I2C/SMBus; Parasite Pwr.: No; DatasheetVersion: Rev. 4; PackageVersion: Rev. L, 08/2009; PackageReference: U8+1; PackageDescription: 8-Pin Micro-MAX, Thin Shrink Small-Outline (U8+1), Body 3 x 3 mm, Pitch 0.65 mm; Supplier 1: Digi-Key; Supplier Part Number 1: MAX6646MUA+-ND; Supplier 2: Mouser; Supplier Part Number 2: 700-MAX6646MUA; Mounting Technology: Surface Mount; Code_JEDEC: MO-187; ComponentLink1Description: Manufacturer URL; ComponentLink1URL: http://www.maximintegrated.com/; ComponentLink2Description: Datasheet; ComponentLink2URL: http://datasheets.maximintegrated.com/en/ds/MAX6646-MAX6649.pdf; ComponentLink3Description: Package Specification; ComponentLink3URL: http://pdfserv.maximintegrated.com/package_dwgs/21-0036.PDF
footprint MAXM-U8+1_N (SOP, 8-Leads, Body 3x3mm, Pitch 0.65mm, IPC Medium Density)
footprint MAXM-U8+1_L (SOP, 8-Leads, Body 3x3mm, Pitch 0.65mm, IPC High Density)
footprint MAXM-U8+1_M (SOP, 8-Leads, Body 3x3mm, Pitch 0.65mm, IPC Low Density)
pins: 1 VCC (power) "Supply Voltage Input, 3V to 5.5V. Bypass VCC to GND with a 0.1uF capacitor. A 200ohm series resistor is recommended but not required for additional noise filtering", 2 DXP "Combined Remote-Diode Current Source and A/D Positive Input for Remote-Diode Channel. DO NOT LEAVE DXP UNCONNECTED; connect DXP to DXN if no remote diode is used. Place a 2200pF capacitor between DXP and DXN for noise (See Datasheet)", 3 DXN "Combined Remote-Diode Current Sink and A/D Negative Input. DXN is internally connected to ground.", 4 ~{OVERT} (oc) "Overtemperature Alert/Interrupt Output, Open Drain. O\V\E\R\T\ is logic low when the temperature is above the software-programmed threshold", 5 GND (power) "Ground", 6 ~{ALERT} (oc) "SMBus Alert (Interrupt) Output, Open Drain. A\L\E\R\T\ asserts when temperature exceeds limits (high or low temperature). A\L\E\R\T\ stays asserted until acknowledged by either reading the status register or by successfully (See Datasheet)", 7 SDA (io) "SMBus Serial-Data Input/Output, Open Drain", 8 SCLK (in) "SMBus Serial-Clock Input"

## MAX6646MUA+T
designator U?
145 degC Precision, SMBus-Compatible Remote / Local Temperature Sensor with Overtemperature Alarm, 11 Bits Temperature Resolution, -55 to 125 degC, 8-Pin SOP (U8+1), Pb-Free, Tape and Reel; Generic Part Number: MAX6646; PartNumber: MAX6646MUA+T; Alarm Output: Alert, Overt; Functions: Dual Temperature Alarms, Remote & Local Sensor; Interface: 2-Wire/I2C/SMBus; Parasite Pwr.: No; DatasheetVersion: Rev. 4; PackageVersion: Rev. L, 08/2009; PackageReference: U8+1; PackageDescription: 8-Pin Micro-MAX, Thin Shrink Small-Outline (U8+1), Body 3 x 3 mm, Pitch 0.65 mm; Supplier 1: Digi-Key; Supplier Part Number 1: MAX6646MUA+TTR-ND; Supplier 2: Digi-Key; Supplier Part Number 2: MAX6646MUA+TCT-ND; Supplier 3: Digi-Key; Supplier Part Number 3: MAX6646MUA+TDKR-ND; Supplier 4: Mouser; Supplier Part Number 4: 700-MAX6646MUAT; Packing: Tape and Reel; Mounting Technology: Surface Mount; Code_JEDEC: MO-187; ComponentLink1Description: Manufacturer URL; ComponentLink1URL: http://www.maximintegrated.com/; ComponentLink2Description: Datasheet; ComponentLink2URL: http://datasheets.maximintegrated.com/en/ds/MAX6646-MAX6649.pdf; ComponentLink3Description: Package Specification; ComponentLink3URL: http://pdfserv.maximintegrated.com/package_dwgs/21-0036.PDF
footprint MAXM-U8+1_N (SOP, 8-Leads, Body 3x3mm, Pitch 0.65mm, IPC Medium Density)
footprint MAXM-U8+1_L (SOP, 8-Leads, Body 3x3mm, Pitch 0.65mm, IPC High Density)
footprint MAXM-U8+1_M (SOP, 8-Leads, Body 3x3mm, Pitch 0.65mm, IPC Low Density)
pins: 1 VCC (power) "Supply Voltage Input, 3V to 5.5V. Bypass VCC to GND with a 0.1uF capacitor. A 200ohm series resistor is recommended but not required for additional noise filtering", 2 DXP "Combined Remote-Diode Current Source and A/D Positive Input for Remote-Diode Channel. DO NOT LEAVE DXP UNCONNECTED; connect DXP to DXN if no remote diode is used. Place a 2200pF capacitor between DXP and DXN for noise (See Datasheet)", 3 DXN "Combined Remote-Diode Current Sink and A/D Negative Input. DXN is internally connected to ground.", 4 ~{OVERT} (oc) "Overtemperature Alert/Interrupt Output, Open Drain. O\V\E\R\T\ is logic low when the temperature is above the software-programmed threshold", 5 GND (power) "Ground", 6 ~{ALERT} (oc) "SMBus Alert (Interrupt) Output, Open Drain. A\L\E\R\T\ asserts when temperature exceeds limits (high or low temperature). A\L\E\R\T\ stays asserted until acknowledged by either reading the status register or by successfully (See Datasheet)", 7 SDA (io) "SMBus Serial-Data Input/Output, Open Drain", 8 SCLK (in) "SMBus Serial-Clock Input"